# Altium schematic symbol library pwr_switching_ctrl.SchLib: 19 symbols
Pins are listed as number, name and electrical type; pins without a type are passive.

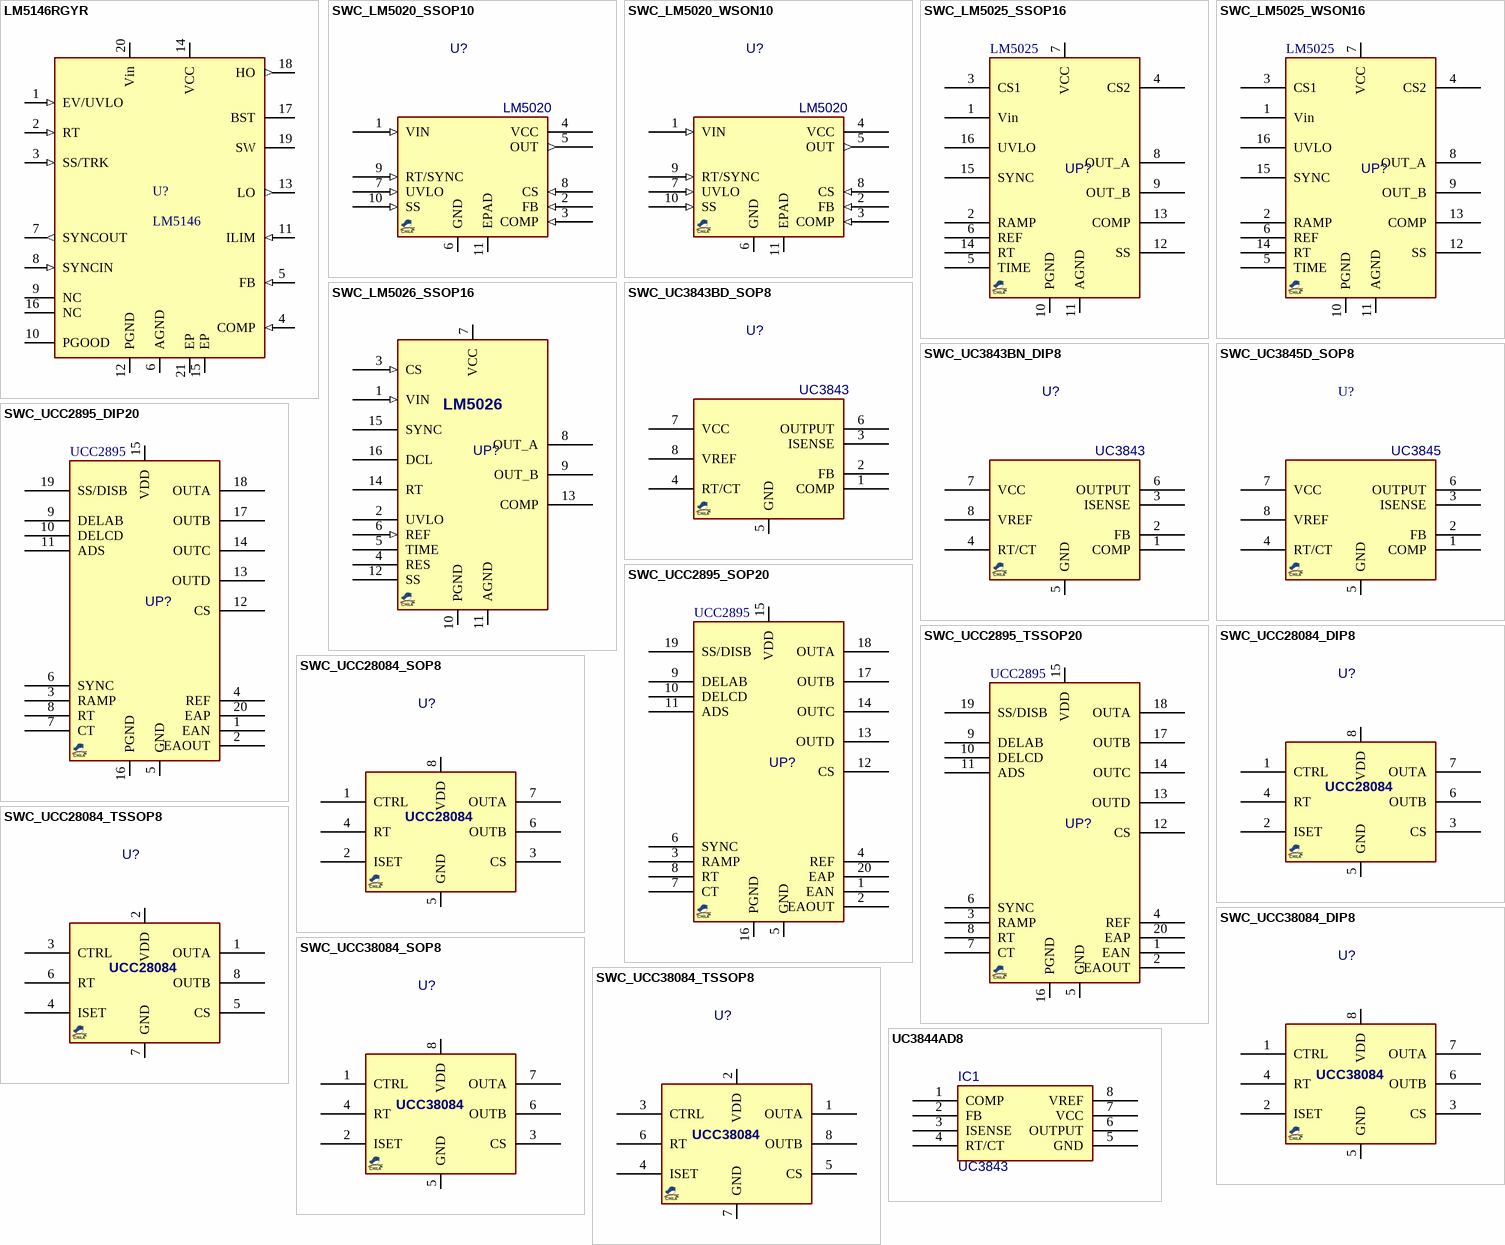
[diagram p0: symbols LM5146RGYR to UC3844AD8]

## LM5146RGYR
designator U?, comment LM5146
Sycncronus Buck controller
footprint QFN50P450X350X100-21N
pins: 1 EV/UVLO (in), 2 RT (in), 3 SS/TRK (in), 4 COMP (in), 5 FB (in), 6 AGND (power), 7 SYNCOUT (out), 8 SYNCIN (in), 9 NC (hiz), 10 PGOOD (oc), 11 ILIM (in), 12 PGND (power), 13 LO (out), 14 VCC (power), 15 EP (power), 16 NC (hiz), 17 BST, 18 HO (out), 19 SW, 20 Vin (power), 21 EP (power)

## SWC_LM5020_SSOP10
designator U?, comment LM5020
PWM Controller, Switching, Boost, 13-100V Vin, 1A ,SSOP; MANF: Texas Instruments; MANF_P#: LM5020MM; PARAM: 1A, -40~125oC; Price: 1.65 USD; Availability: Good; PARAM2: 13-100V Vin; Value: LM5020
footprint SOG50_10 (MSSOP10, 3X3mm 0.5mm pitch, DGS, MSOP10, 10uSOP/usop10 (Dallas), MO-187BA(JEDEC))
pins: 1 VIN (in), 2 FB (in), 3 COMP (in), 4 VCC (power), 5 OUT (out), 6 GND, 7 UVLO (in), 8 CS (in), 9 RT/SYNC (in), 10 SS (in), 11 EPAD

## SWC_LM5020_WSON10
designator U?, comment LM5020
PWM Controller, Switching, Boost, 13-100V Vin, 1A ,WSON; MANF: Texas Instruments; MANF_P#: LM5020SD; PARAM: 1A, -40~125oC; Price: 1.65 USD; Availability: Good; PARAM2: 13-100V Vin; Value: LM5020
footprint SON80_10T (WSON10, 10-Leads, 4x4mm, Pitch 0.80mm)
pins: 1 VIN (in), 2 FB (in), 3 COMP (in), 4 VCC (power), 5 OUT (out), 6 GND, 7 UVLO (in), 8 CS (in), 9 RT/SYNC (in), 10 SS (in), 11 EPAD

## SWC_LM5025_SSOP16
designator UP?, comment LM5025
PWM Controller, Switching, Active Clamp, SSOP16; MANF: TI; MANF_P#: LM5025MTC; ASSEMBLY: ASSEMBLY; PARAM: -; PRICE: -; DESC: PWM Controller, Switching, Active Clamp,; PARAM2: -; VALUE: LM5025
footprint SOG65_16 (PW TSSOP (TI), MO-153-AB (JEDEC), 16Lead, pitch: 0.65mm, 5x4.4x1.2mm)
pins: 1 Vin, 2 RAMP, 3 CS1, 4 CS2, 5 TIME, 6 REF, 7 VCC, 8 OUT_A, 9 OUT_B, 10 PGND, 11 AGND, 12 SS, 13 COMP, 14 RT, 15 SYNC, 16 UVLO

## SWC_LM5025_WSON16
designator UP?, comment LM5025
PWM Controller, Switching, Active Clamp, WSON; MANF: TI; MANF_P#: LM5025SD; ASSEMBLY: ASSEMBLY; PARAM: -; PRICE: -; DESC: PWM Controller, Switching, Active Clamp,; PARAM2: -; VALUE: LM5025
footprint SON50_16T (WSON16, 5X5mm, 0.5mm pitch)
pins: 1 Vin, 2 RAMP, 3 CS1, 4 CS2, 5 TIME, 6 REF, 7 VCC, 8 OUT_A, 9 OUT_B, 10 PGND, 11 AGND, 12 SS, 13 COMP, 14 RT, 15 SYNC, 16 UVLO

## SWC_LM5026_SSOP16
designator UP?, comment LM5026  (value not drawn)
PWM Controller, Switching, Active Clamp, SSOP16; MANF: TI; PARAM: Current Mode; MANF_P#: LM5026MT; ASSEMBLY: ASSEMBLY; PRICE: -; DESC: PWM Controller, Switching, Active Clamp,; PARAM2: -; VALUE: LM5026
footprint SOG65_16 (PW TSSOP (TI), MO-153-AB (JEDEC), 16Lead, pitch: 0.65mm, 5x4.4x1.2mm)
pins: 1 VIN (in), 2 UVLO, 3 CS (in), 4 RES, 5 TIME, 6 REF (in), 7 VCC (power), 8 OUT_A, 9 OUT_B, 10 PGND, 11 AGND, 12 SS, 13 COMP, 14 RT, 15 SYNC, 16 DCL

## SWC_UC3843BD_SOP8
designator U?, comment UC3843
PWM Controller, Switching, 8.4~28V Vin; MANF: ST; MANF_P#: UC3843BD; PARAM: 250kHz, -50~150oC; PARAM2: 13-100V Vin; Price: -; Availability: Good; Value: UC3843
footprint SO_8 (SOP-8, 5x3.9mm body 1.27mm pitch, SOT96-1, M08A, S8, SOIC8, VO8, MS-012AA(JEDEC), R-8, 8S2, VOG8)
pins: 1 COMP, 2 FB, 3 ISENSE, 4 RT/CT, 5 GND, 6 OUTPUT, 7 VCC, 8 VREF

## SWC_UC3843BN_DIP8
designator U?, comment UC3843
PWM Controller, Switching, 8.4~28V Vin; MANF: ST; MANF_P#: UC3843BN; PARAM: 250kHz, -50~150oC; PARAM2: 13-100V Vin; Price: -; Availability: Good; Value: UC3843
footprint DIP_8 (DIP, pitch 2.54mm, 300mil Width)
pins: 1 COMP, 2 FB, 3 ISENSE, 4 RT/CT, 5 GND, 6 OUTPUT, 7 VCC, 8 VREF

## SWC_UC3845D_SOP8
designator U?, comment UC3845
PWM Controller, Switching, 8.4~28V Vin; MANF: ST; MANF_P#: UC3845D; PARAM: 250kHz, 0~70°C; PARAM2: 13-100V Vin; Price: -; Availability: Good; Value: UC3845
footprint SO_8 (SOP-8, 5x3.9mm body 1.27mm pitch, SOT96-1, M08A, S8, SOIC8, VO8, MS-012AA(JEDEC), R-8, 8S2, VOG8)
pins: 1 COMP, 2 FB, 3 ISENSE, 4 RT/CT, 5 GND, 6 OUTPUT, 7 VCC, 8 VREF

## SWC_UCC2895_DIP20
designator UP?, comment UCC2895
PWM Controller, Switching, Phase-Shift, DIP20; MANF: TI; MANF_P#: UCC2895N; ASSEMBLY: ASSEMBLY; PARAM: -; PRICE: 6.5$; PARAM2: -; VALUE: UCC2895
footprint DIP_20 (DIP, pitch 2.54mm, 300mil Width)
pins: 1 EAN, 2 EAOUT, 3 RAMP, 4 REF, 5 GND, 6 SYNC, 7 CT, 8 RT, 9 DELAB, 10 DELCD, 11 ADS, 12 CS, 13 OUTD, 14 OUTC, 15 VDD, 16 PGND, 17 OUTB, 18 OUTA, 19 SS/DISB, 20 EAP

## SWC_UCC2895_SOP20
designator UP?, comment UCC2895
PWM Controller, Switching, Phase-Shift, SOP-20; MANF: TI; MANF_P#: UCC2895DW; ASSEMBLY: ASSEMBLY; PARAM: -; PRICE: 5.5$; PARAM2: -; VALUE: UCC2895
footprint SO_20_W (SOP, SOIC, 7.5mm width, 1.27mm pitch,)
pins: 1 EAN, 2 EAOUT, 3 RAMP, 4 REF, 5 GND, 6 SYNC, 7 CT, 8 RT, 9 DELAB, 10 DELCD, 11 ADS, 12 CS, 13 OUTD, 14 OUTC, 15 VDD, 16 PGND, 17 OUTB, 18 OUTA, 19 SS/DISB, 20 EAP

## SWC_UCC2895_TSSOP20
designator UP?, comment UCC2895
PWM Controller, Switching, Phase-Shift, TSSOP-20; MANF: TI; MANF_P#: UCC2895PW; ASSEMBLY: ASSEMBLY; PARAM: -; PRICE: 5.5$; PARAM2: -; VALUE: UCC2895
footprint SOG65_20 (PW TSSOP (TI), MO-153-AC (JEDEC), 20Lead, pitch: 0.65mm, 6.5x4.4x1.2mm)
pins: 1 EAN, 2 EAOUT, 3 RAMP, 4 REF, 5 GND, 6 SYNC, 7 CT, 8 RT, 9 DELAB, 10 DELCD, 11 ADS, 12 CS, 13 OUTD, 14 OUTC, 15 VDD, 16 PGND, 17 OUTB, 18 OUTA, 19 SS/DISB, 20 EAP

## SWC_UCC28084_DIP8
designator U?, comment UCC28084  (value not drawn)
PWM Controller, Switching, Push-Pull, 15VDD, 1A/0.5A; MANF: Texas Instruments; MANF_P#: UCC28084P; PARAM: 1A, -40~85oC; PARAM2: 15VDD, 3.5ms, 4.3UVLO; Price: 1$; Availability: Good; Value: UCC28084
footprint SO_8 (SOP-8, 5x3.9mm body 1.27mm pitch, SOT96-1, M08A, S8, SOIC8, VO8, MS-012AA(JEDEC), R-8, 8S2, VOG8)
pins: 1 CTRL, 2 ISET, 3 CS, 4 RT, 5 GND, 6 OUTB, 7 OUTA, 8 VDD

## SWC_UCC28084_SOP8
designator U?, comment UCC28084  (value not drawn)
PWM Controller, Switching, Push-Pull, 15VDD, 1A/0.5A; MANF: Texas Instruments; MANF_P#: UCC28084D; PARAM: 1A, -40~85oC; PARAM2: 15VDD, 3.5ms, 4.3UVLO; Price: 1$; Availability: Good; Value: UCC28084
footprint SO_8 (SOP-8, 5x3.9mm body 1.27mm pitch, SOT96-1, M08A, S8, SOIC8, VO8, MS-012AA(JEDEC), R-8, 8S2, VOG8)
pins: 1 CTRL, 2 ISET, 3 CS, 4 RT, 5 GND, 6 OUTB, 7 OUTA, 8 VDD

## SWC_UCC28084_TSSOP8
designator U?, comment UCC28084  (value not drawn)
PWM Controller, Switching, Push-Pull, 15VDD, 1A/0.5A; MANF: Texas Instruments; MANF_P#: UCC28084PW; PARAM: 1A, -40~85oC; PARAM2: 15VDD, 3.5ms, 4.3UVLO; Price: 1$; Availability: Good; Value: UCC28084
footprint SOG65_8 (PW TSSOP (TI), MO-153 (JEDEC), 8Lead, pitch: 0.65mm, 3x4.4x1.2mm)
pins: 1 OUTA, 2 VDD, 3 CTRL, 4 ISET, 5 CS, 6 RT, 7 GND, 8 OUTB

## SWC_UCC38084_DIP8
designator U?, comment UCC38084  (value not drawn)
PWM Controller, Switching, Push-Pull, 15VDD, 1A/0.5A; MANF: Texas Instruments; MANF_P#: UCC38084P; PARAM: 1A, 0~70oC; PARAM2: 15VDD, 3.5ms, 4.3UVLO; Price: 1$; Availability: Good; Value: UCC38084
footprint SO_8 (SOP-8, 5x3.9mm body 1.27mm pitch, SOT96-1, M08A, S8, SOIC8, VO8, MS-012AA(JEDEC), R-8, 8S2, VOG8)
pins: 1 CTRL, 2 ISET, 3 CS, 4 RT, 5 GND, 6 OUTB, 7 OUTA, 8 VDD

## SWC_UCC38084_SOP8
designator U?, comment UCC38084  (value not drawn)
PWM Controller, Switching, Push-Pull, 15VDD, 1A/0.5A; MANF: Texas Instruments; MANF_P#: UCC38084D; PARAM: 1A, 0~70oC; PARAM2: 15VDD, 3.5ms, 4.3UVLO; Price: 1$; Availability: Good; Value: UCC38084
footprint SO_8 (SOP-8, 5x3.9mm body 1.27mm pitch, SOT96-1, M08A, S8, SOIC8, VO8, MS-012AA(JEDEC), R-8, 8S2, VOG8)
pins: 1 CTRL, 2 ISET, 3 CS, 4 RT, 5 GND, 6 OUTB, 7 OUTA, 8 VDD

## SWC_UCC38084_TSSOP8
designator U?, comment UCC38084  (value not drawn)
PWM Controller, Switching, Push-Pull, 15VDD, 1A/0.5A; MANF: Texas Instruments; MANF_P#: UCC38084PW; PARAM: 1A, 0~70oC; PARAM2: 15VDD, 3.5ms, 4.3UVLO; Price: 1$; Availability: Good; Value: UCC38084
footprint SOG65_8 (PW TSSOP (TI), MO-153 (JEDEC), 8Lead, pitch: 0.65mm, 3x4.4x1.2mm)
pins: 1 OUTA, 2 VDD, 3 CTRL, 4 ISET, 5 CS, 6 RT, 7 GND, 8 OUTB

## UC3844AD8
designator IC1, comment UC3843
Integrated Circuit; Manufacturer_Name: Texas Instruments; Manufacturer_Part_Number: UC3844AD8; Datasheet Link: http://www.ti.com/lit/gpn/uc3844a; Height: 1.75mm; Arrow Part Number: UC3844AD8; Arrow Price/Stock: https://www.arrow.com/en/products/uc3844ad8/texas-instruments; Mouser Part Number: 595-UC3844AD8; Mouser Price/Stock: https://www.mouser.co.uk/ProductDetail/Texas-Instruments/UC3844AD8?qs=xJkDX%2FqrskMU%2FydUORTAEA%3D%3D
footprint SOIC127P600X175-8N
pins: 1 COMP, 2 FB, 3 ISENSE, 4 RT/CT, 5 GND, 6 OUTPUT, 7 VCC, 8 VREF